# Altium schematic symbol library SIM7670.SchLib: 1 symbol
Pins are listed as number, name and electrical type; pins without a type are passive.

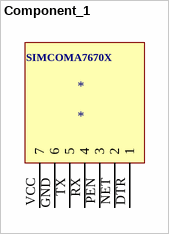
[diagram p0: symbol Component_1]

## Component_1
designator *
pins: DTR 1, GND 6, NET 2, PEN 3, RX 4, TX 5, VCC 7
text: SIMCOMA7670X